# Altium schematic symbol library jonnew.SchLib: 5 symbols
Pins are listed as number, name and electrical type; pins without a type are passive.

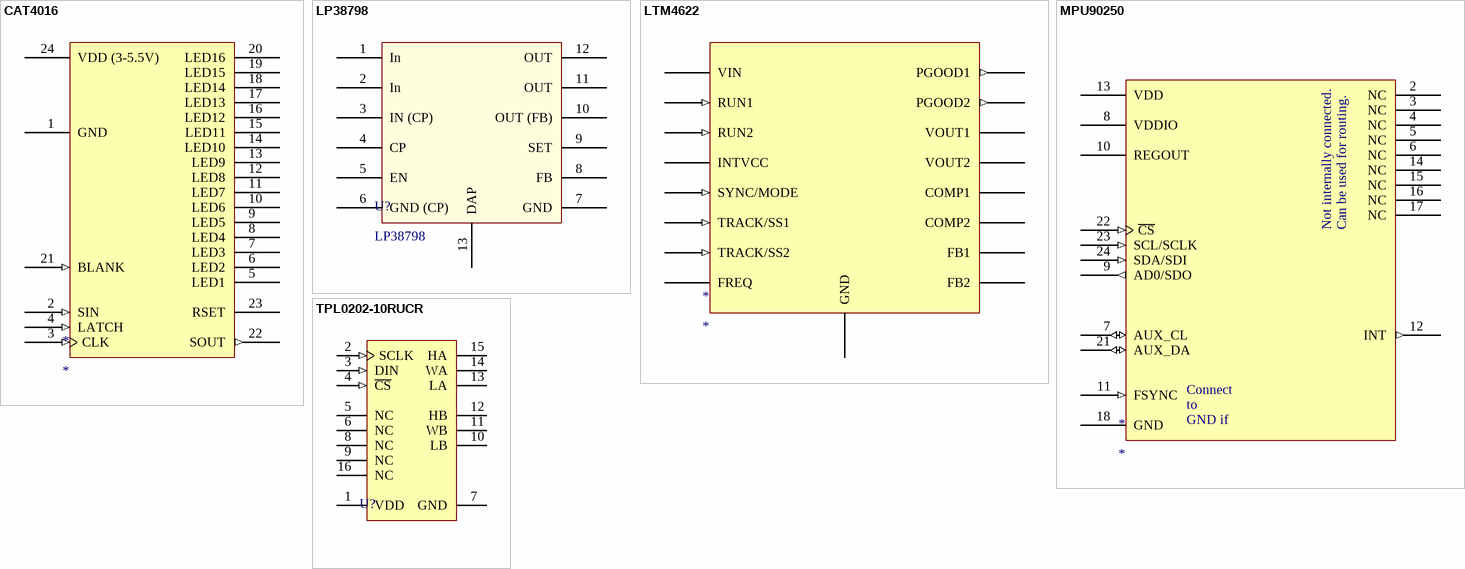
[diagram p0: symbols CAT4016 to TPL0202-10RUCR]

## CAT4016
designator *
16-Channel Constant Current LED Driver
footprint TQFN24 (TQFN24, 4x4 AR)
pins: 1 GND (power), 2 SIN (in), 3 CLK (in), 4 LATCH (in), 5 LED1, 6 LED2, 7 LED3, 8 LED4, 9 LED5, 10 LED6, 11 LED7, 12 LED8, 13 LED9, 14 LED10, 15 LED11, 16 LED12, 17 LED13, 18 LED14, 19 LED15, 20 LED16, 21 BLANK (in), 22 SOUT (out), 23 RSET, 24 VDD (3-5.5V) (power), PAD (power)

## LP38798
designator U?
Low Noise Positive LDO
footprint DFN12
pins: 1 In (power) "VIN", 2 In (power) "VIN", 3 IN (CP) (power) "VIN", 4 CP "VIN", 5 EN, 6 GND (CP), 7 GND (power), 8 FB, 9 SET, 10 OUT (FB), 11 OUT (power), 12 OUT (power), 13 DAP

## LTM4622
designator *
Dual output buck regulator module
footprint LGA5x5 (LGA Package  25-Lead (6.25mm × 6.25mm × 1.82mm))
pins: A1 VOUT2 (power), A2 VIN (power), A3 TRACK/SS2 (in), A4 FB2, A5 COMP2, B1 VOUT2, B2 RUN2 (in), B3 VIN, B4 PGOOD2 (out), B5 GND, C1 GND (power), C2 GND, C3 INTVCC, C4 FREQ, C5 SYNC/MODE (in), D1 VOUT1 (power), D2 RUN1 (in), D3 VIN, D4 PGOOD1 (out), D5 GND, E1 VOUT1, E2 VIN, E4 FB1, E5 TRACK/SS1 (in), E5 COMP1

## MPU90250
designator *
9-Axis IMU (Accel, Gyro, Magno)
footprint QFN24-3x3mm (QFN24 3x3mm)
pins: 1 RESV (power), 2 NC, 3 NC, 4 NC, 5 NC, 6 NC, 7 AUX_CL (io), 8 VDDIO (power), 9 AD0/SDO (out) "I2C Slave Address LSB (AD0); SPI serial data output (SDO)", 10 REGOUT, 11 FSYNC (in) "Connect to GND if not used.", 12 INT (out) "Interupt Output", 13 VDD, 14 NC, 15 NC, 16 NC, 17 NC, 18 GND (power), 19 DO NOT CONNECT hidden, 20 RESV (power), 21 AUX_DA (io), 22 ~{CS} (in) "Connect to GND if not used.", 23 SCL/SCLK (in) "Connect to GND if not used.", 24 SDA/SDI (in) "Connect to GND if not used."
text: Not internally connected.; Can be used for routing.; Connect to / GND if / not in use

## TPL0202-10RUCR
designator U?
256 Tap, Dual Channel Digital Potentiometer with SPI Interface and Non-Volatile Memory, -40 to 85 degC, 14-pin QFN (RUC14); Manufacturer: Texas Instruments; PartNumber: TPL0202-10RUCR; DAC Channels: 2; DNL(Max)(+/-LSB): 0.5; INL(Max)(+/-LSB): 1; DatasheetVersion: SLIS135C; PackageVersion: 4208447/C, 08/2008; PackageReference: RUC14; PackageDescription: 14-Pin Plastic Quad Flatpack No-Lead, Body 2 x 2 mm, Pitch 0.4 mm; Supplier 1: Mouser; Supplier Part Number 1: N/A; Interface: SPI; SubFamily: Digital Potentiometer; Mounting Technology: Surface Mount; Code_JEDEC: MO-288; ComponentLink1Description: Manufacturer URL; ComponentLink1URL: http://www.ti.com/; ComponentLink2Description: Datasheet; ComponentLink2URL: http://www.ti.com/general/docs/lit/getliterature.tsp?genericPartNumber=TPL0202-10&fileType=pdf; ComponentLink3Description: Package Specification; ComponentLink3URL: http://www.ti.com/lit/ml/mpqf212b/mpqf212b.pdf
footprint WQFN16-3X3mm (WQFN16 3X3mm)
pins: 1 VDD (power) "Supply Voltage", 2 SCLK (in) "SPI Clock", 3 DIN (in) "SPI Input", 4 ~{CS} (in) "SPI Chip Select (Active Low)", 5 NC "Not internally connected", 6 NC "Not internally connected", 7 GND (power) "Ground", 8 NC "Not internally connected", 9 NC "Not internally connected", 10 LB "Low terminal of Potentiometer B", 11 WB "Wiper terminal of Potentiometer B", 12 HB "High terminal of Potentiometer B", 13 LA "Low terminal of Potentiometer A", 14 WA "Wiper terminal of Potentiometer A", 15 HA "High terminal of Potentiometer A", 16 NC "Not internally connected"